# EAGLE library part MOLEX_0015247060 (library gost_con_mini-fit)
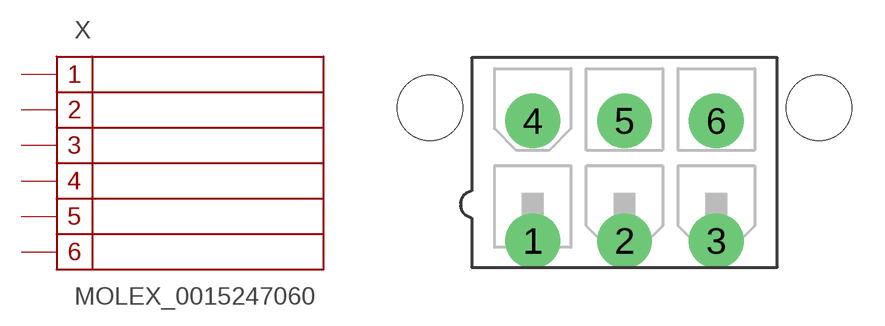
[diagram p0: symbol with the pads of MOLEX_0015247060; footprint MOLEX_0015247060]

Designator prefix X

## MOLEX_0015247060  [MOLEX_0015247060]
1  1
2  2
3  3
4  4
5  5
6  6

## Footprint MOLEX_0015247060 (pad centres in mm)
drill 1.4 pad 2.5: 1 -4.2,-5.9; 2 0,-5.9; 3 4.2,-5.9; 4 -4.2,-0.4; 5 0,-0.4; 6 4.2,-0.4
hole 3 at -8.9,0.2
hole 3 at 8.9,0.2